# EAGLE library part LT3030EFE#TRPBF (library voltageReg)
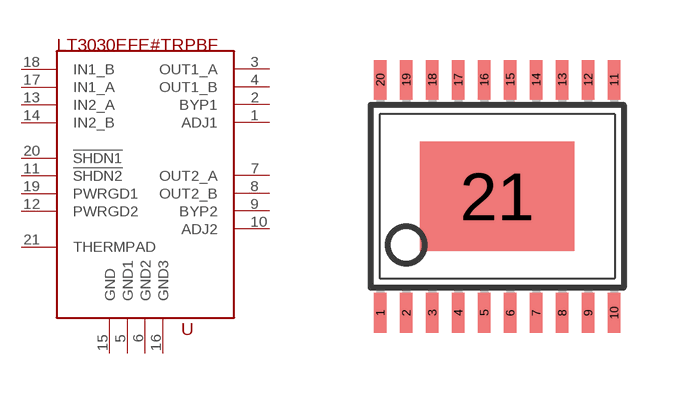
[diagram p0: symbol with the pads of TSSOP20; footprint TSSOP20]

Designator prefix -

## LT3030EFE#TRPBF  [TSSOP20]
1  ADJ1  pas
2  BYP1  pas
3  OUT1_A  pwr
4  OUT1_B  pwr
5  GND1  pwr
6  GND2  pwr
7  OUT2_A  pwr
8  OUT2_B  pwr
9  BYP2  pas
10  ADJ2  pas
11  !SHDN2!  pwr
12  PWRGD2  pwr
13  IN2_A  pwr
14  IN2_B  pwr
15  GND  pwr
16  GND3  pwr
17  IN1_A  pwr
18  IN1_B  pwr
19  PWRGD1  pwr
20  !SHDN1!  pwr
21  THERMPAD  pwr

## Footprint TSSOP20 (pad centres in mm)
Thin Shrink Small Outline Plastic 20 MAX3223-MAX3243.pdf
smd 0.305 x 0.991: 1 -2.925,-2.918; 2 -2.275,-2.918; 3 -1.625,-2.918; 4 -0.975,-2.918; 5 -0.325,-2.918; 6 0.325,-2.918; 7 0.975,-2.918; 8 1.625,-2.918; 9 2.275,-2.918; 10 2.925,-2.918; 11 2.925,2.918; 12 2.275,2.918; 13 1.625,2.918; 14 0.975,2.918; 15 0.325,2.918; 16 -0.325,2.918; 17 -0.975,2.918; 18 -1.625,2.918; 19 -2.275,2.918; 20 -2.925,2.918
smd 3.86 x 2.74: 21 0,0